# Altium schematic symbol library BFTC-415+.SchLib: 1 symbol
Pins are listed as number, name and electrical type; pins without a type are passive.

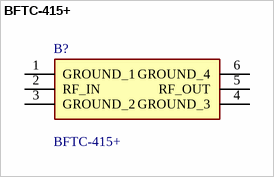
[diagram p0: symbol BFTC-415+]

## BFTC-415+
designator B?
Ceramic Bandpass Filter 50 330 to 500 MHz; Manufacturer_Name: Mini-Circuits; Geometry.Height: 1.5mm; Mouser Part Number: *; Mouser Price/Stock: *; Manufacturer_Part_Number: BFTC-415+; Datasheet Link: https://www.minicircuits.com/pdfs/BFTC-415+.pdf
footprint BFTC415
pins: 1 GROUND_1, 2 RF_IN, 3 GROUND_2, 4 GROUND_3, 5 RF_OUT, 6 GROUND_4